# Altium footprint library Game Joystick P5101.PcbLib: 38 footprints (part 3 of 3)
Each footprint in its own frame and in the unit in brackets; x right, y up, seen from the top. Pads: shape width x height; smd on the part's side, far side on the other; paste and mask are expansions set on the pad; w line width, h text height; cw(c..) or ccw(c..) is an arc to the next point about the centre after c.
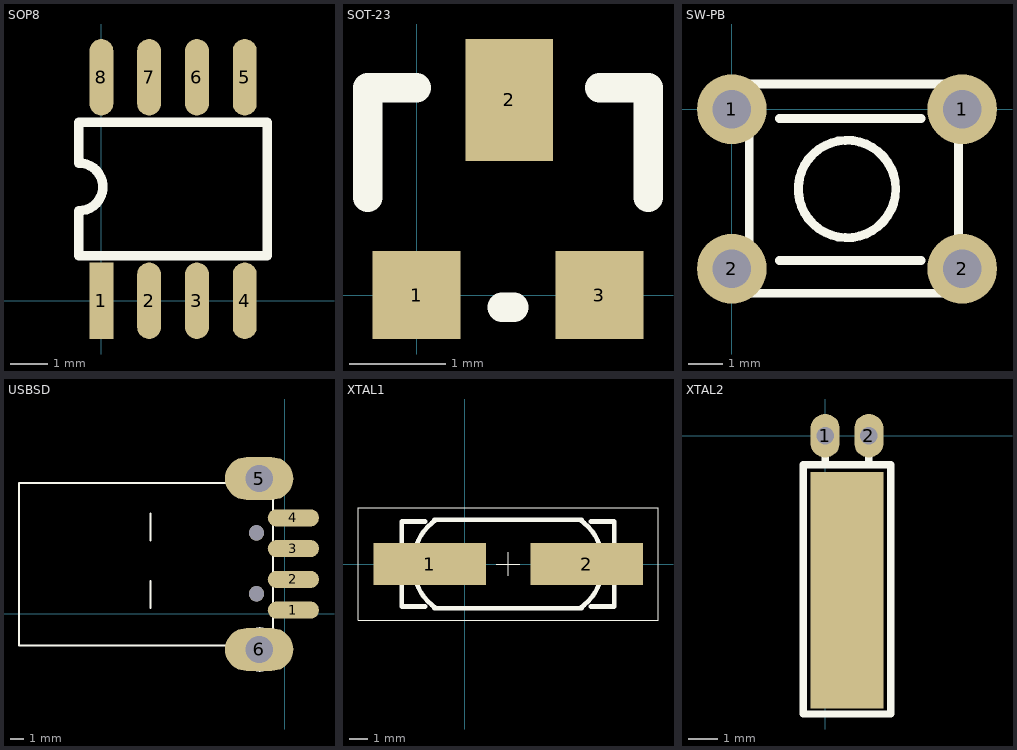
[diagram p2: the footprints below, top view; thin cyan lines are the x and y axes]

## SOP8 [mil]
pads (8):
  rect 25x80 smd: 1(0,0)
  oval 25x80 smd: 2(50,0) 3(100,0) 4(150,0) 5(150,233.78) 6(100,233.78) 7(50,233.78) 8(0,233.78)
Top Overlay:
  lines w10: -23.43,94.09 ccw(c-23.43,119.09) -23.43,144.09 ; -23.43,93.5 -23.43,46.89 173.43,46.89 173.43,186.89 -23.43,186.89 -23.43,143.9

## SOT-23 [mil]
pads (3):
  rect 36x36 smd: 1(0,0) 3(75,0)
  rect 36x50 smd: 2(38,80)
Top Overlay:
  lines w12: -20,40 -20,85 0,85 ; 35,-5 40,-5 ; 75,85 95,85 95,40

## SW-PB [mm]
height 1.35
pads (4):
  round 2 hole 1.1: 1(0,0) 1(6.604,0) 2(0,-4.572) 2(6.604,-4.572)
Top Overlay:
  circle w0.254: c3.302,-2.286 r1.397
  lines w0.254: 1.368,-4.332 5.432,-4.332 ; 1.368,-0.268 5.432,-0.268 ; 0.5,-5.275 6.5,-5.275 6.5,0.725 0.5,0.725 0.5,-5.275

## USBSD [mil]
pads (8):
  oval 150x50 all layers, no hole: 1(25,10) 2(25,100) 3(25,190) 4(25,280)
  oval 200x125 hole 80: 5(-75,395) 6(-75,-105)
  round 45 hole 45: ""(-82.68,57.87) ""(-82.68,235.83)
Top Overlay:
  circle w10: c-75.21,-105 r60.21
  circle w10: c-75,395 r57.1
  lines w6: -393.22,16.63 -393.22,95.37 ; -393.22,213.48 -393.22,292.22 ; -777.25,-93.7 -34.25,-93.7 -34.25,382.3 -777.25,382.3 -777.25,-93.7

## XTAL1 [mil]
pads (2):
  rect 240x90 smd: 1(-75,0) 2(260,0)
Top Overlay:
  lines w2: -227.99,-120 -227.99,120 ; -227.99,-120 412.01,-120 ; -227.99,-120 -227.99,120 ; -227.99,-120 412.01,-120 ; -227.99,120 412.01,120 ; -227.99,120 412.01,120 ; 92.01,0 92.01,-25 92.01,0 ; 92.01,0 67.01,0 92.01,0 ; 92.01,0 117.01,0 92.01,0 ; 92.01,0 92.01,25 92.01,0 ; 412.01,-120 412.01,120 ; 412.01,-120 412.01,120
  lines w10: -61.53,-94.49 cw(c4.63,0) -61.53,94.49 ; -134.37,-90.55 -85.16,-90.55 -134.37,-90.55 ; -134.37,-90.55 -134.37,-39.37 -134.37,-90.55 ; -134.37,90.55 -85.16,90.55 -134.37,90.55 ; -134.37,90.55 -134.37,39.37 -134.37,90.55 ; 318.39,-90.55 269.18,-90.55 318.39,-90.55 ; 318.39,-90.55 318.39,-39.37 318.39,-90.55 ; 318.39,90.55 269.18,90.55 318.39,90.55 ; 318.39,90.55 318.39,39.37 318.39,90.55 ; -65.47,-94.49 249.49,-94.49 -65.47,-94.49 ; -65.47,94.49 249.49,94.49 -65.47,94.49 ; 245.55,-94.49 ccw(c179.39,0) 245.55,94.49 cw(c179.39,0) 245.55,-94.49

## XTAL2 [mm]
pads (3):
  oval 1x1.5 hole 0.6: 1(0,0) 2(1.5,0)
  rect 2.5x8.128 smd: ""(0.75,-5.305)
Top Overlay:
  lines w0.254: 0,-1 0,-0.15 ; 1.5,-1 1.5,-0.1 ; -0.75,-9.559 -0.75,-1 2.25,-1 2.25,-9.559 -0.75,-9.559